# Altium schematic symbol library VS-5EWH06FN-M3.Schlib: 1 symbol
Pins are listed as number, name and electrical type; pins without a type are passive.

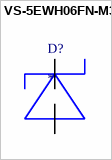
[diagram p0: symbol VS-5EWH06FN-M3]

## VS-5EWH06FN-M3
designator D?
Diode Switching 600V 5A DPAK; MF: Vishay Diodes; Digikey: VS-5EWH06FN-M3-ND; Digikey Link: https://www.digikey.ca/en/products/detail/vishay-semiconductor-diodes-division/VS-5EWH06FN-M3/4934509
footprint DPAK (TO-252); pin to pad IN>3 OUT>2
pins: IN, OUT